# Altium schematic symbol library Mechanical_Hardware_Heatsink_GOST.SchLib: 4 symbols
Pins are listed as number, name and electrical type; pins without a type are passive.

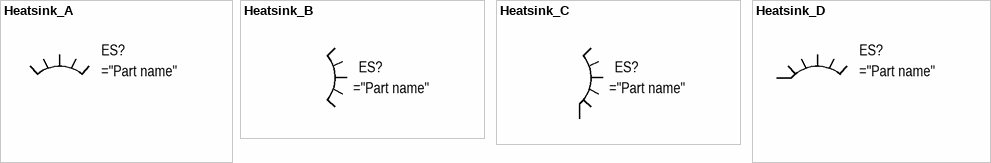
[diagram p0: symbols Heatsink_A to Heatsink_D]

## Heatsink_A
designator ES?

## Heatsink_B
designator ES?

## Heatsink_C
designator ES?
pins: CASE

## Heatsink_D
designator ES?
pins: CASE